# Altium schematic symbol library 174.SchLib: 2 symbols
Pins are listed as number, name and electrical type; pins without a type are passive.

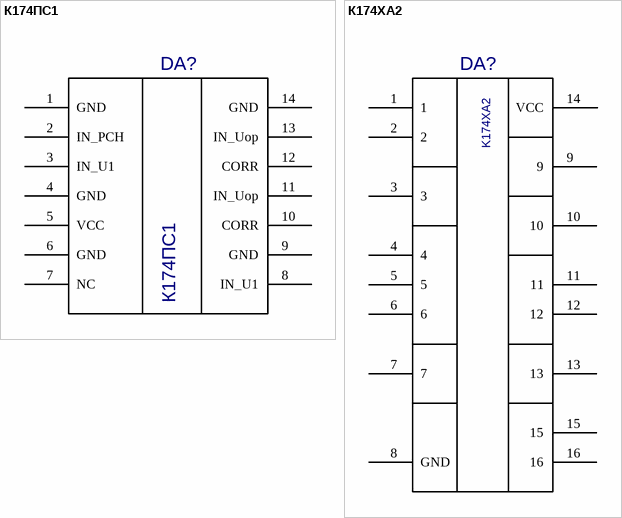
[diagram p0: symbols К174ПС1 to К174ХА2]

## К174ПС1
designator DA?
Value: *
footprint 201.14-1
pins: 1 GND, 2 IN_PCH, 3 IN_U1, 4 GND, 5 VCC, 6 GND, 7 NC, 8 IN_U1, 9 GND, 10 CORR, 11 IN_Uop, 12 CORR, 13 IN_Uop, 14 GND

## К174ХА2
designator DA?  (value not drawn)
Author: pcbdesigner.ru; Value: *
footprint 238.16-1
pins: 1, 2, 3, 4, 5, 6, 7, 8 GND, 9, 10, 11, 12, 13, 14 VCC, 15, 16
text: K174XA2